# EAGLE library part MX25L12833F_128MBIT_QSPI (library SparkFun-IC-Memory)
Macronix MX25L12833FZNI-10G 128MBit QSPI MX25L12833F is 128Mb bits Serial NOR Flash memory.
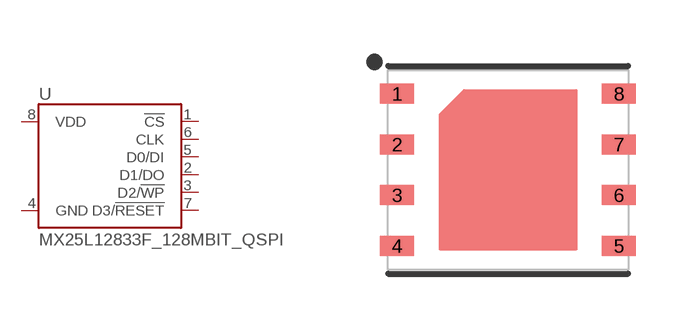
[diagram p10: symbol with the pads of WSON-8-6X5; footprint WSON-8-6X5]

Designator prefix U

## MX25L12833F_128MBIT_QSPI (PN: MX25L12833F-10G; PROD_ID: IC-21738; VALUE: MX25L12833F 128Mb)  [WSON-8-6X5]
1  !CS!
2  D1/DO
3  D2/!WP!
4  GND
5  D0/DI
6  CLK
7  D3/!RESET!
8  VDD

## Footprint WSON-8-6X5 (pad centres in mm)
smd 0.85 x 0.5: 1 -2.775,1.905; 2 -2.775,0.635; 3 -2.775,-0.635; 4 -2.775,-1.905; 5 2.775,-1.905; 6 2.775,-0.635; 7 2.775,0.635; 8 2.775,1.905